# EAGLE library part AVR128DA32 (library U-AVR)
AVR128DA32-I/[RXB | PT] IC MCU 8BIT 128kB FLASH 16kB SRAM PT = TQFP 32 PIN RXB = VQFN 32 PIN
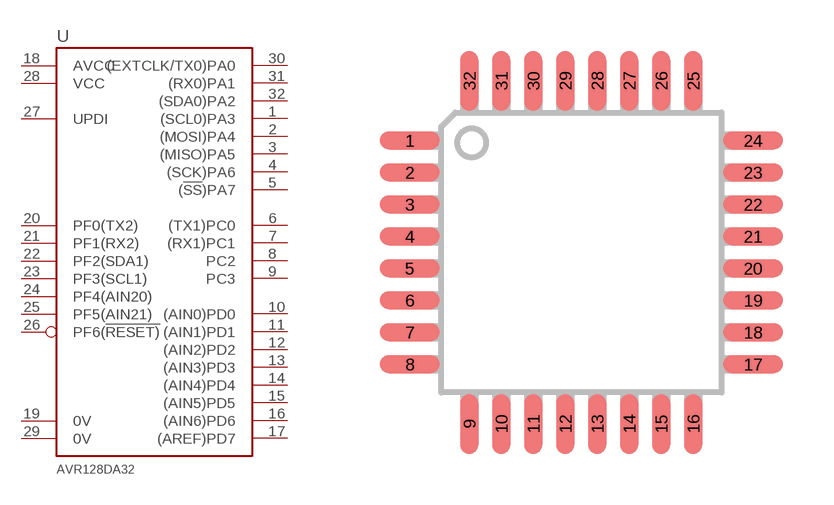
[diagram p20: symbol with the pads of TQFP32-08; footprint TQFP32-08]

Designator prefix U

## AVR128DA32  [TQFP32-08]
1  (SCL0)PA3
2  (MOSI)PA4
3  (MISO)PA5
4  (SCK)PA6
5  (!SS!)PA7
6  (TX1)PC0
7  (RX1)PC1
8  PC2
9  PC3
10  (AIN0)PD0
11  (AIN1)PD1
12  (AIN2)PD2
13  (AIN3)PD3
14  (AIN4)PD4
15  (AIN5)PD5
16  (AIN6)PD6
17  (AREF)PD7  pas
18  AVCC  pas
19  0V  pwr
20  PF0(TX2)
21  PF1(RX2)
22  PF2(SDA1)
23  PF3(SCL1)
24  PF4(AIN20)
25  PF5(AIN21)
26  PF6(!RESET)  in
27  UPDI
28  VCC  pwr
29  0V  pwr
30  (EXTCLK/TX0)PA0
31  (RX0)PA1
32  (SDA0)PA2

## Footprint TQFP32-08 (pad centres in mm)
Thin Plasic Quad Flat Package Grid 0.8 mm
smd 1.5 x 0.45: 1 -4.293,2.8; 2 -4.293,2; 3 -4.293,1.2; 4 -4.293,0.4; 5 -4.293,-0.4; 6 -4.293,-1.2; 7 -4.293,-2; 8 -4.293,-2.8; 17 4.293,-2.8; 18 4.293,-2; 19 4.293,-1.2; 20 4.293,-0.4; 21 4.293,0.4; 22 4.293,1.2; 23 4.293,2; 24 4.293,2.8
smd 0.45 x 1.5: 9 -2.8,-4.293; 10 -2,-4.293; 11 -1.2,-4.293; 12 -0.4,-4.293; 13 0.4,-4.293; 14 1.2,-4.293; 15 2,-4.293; 16 2.8,-4.293; 25 2.8,4.293; 26 2,4.293; 27 1.2,4.293; 28 0.4,4.293; 29 -0.4,4.293; 30 -1.2,4.293; 31 -2,4.293; 32 -2.8,4.293